# Altium schematic symbol library SamacSys.SchLib: 218 symbols (part 1 of 3)
Pins are listed as number, name and electrical type; pins without a type are passive.

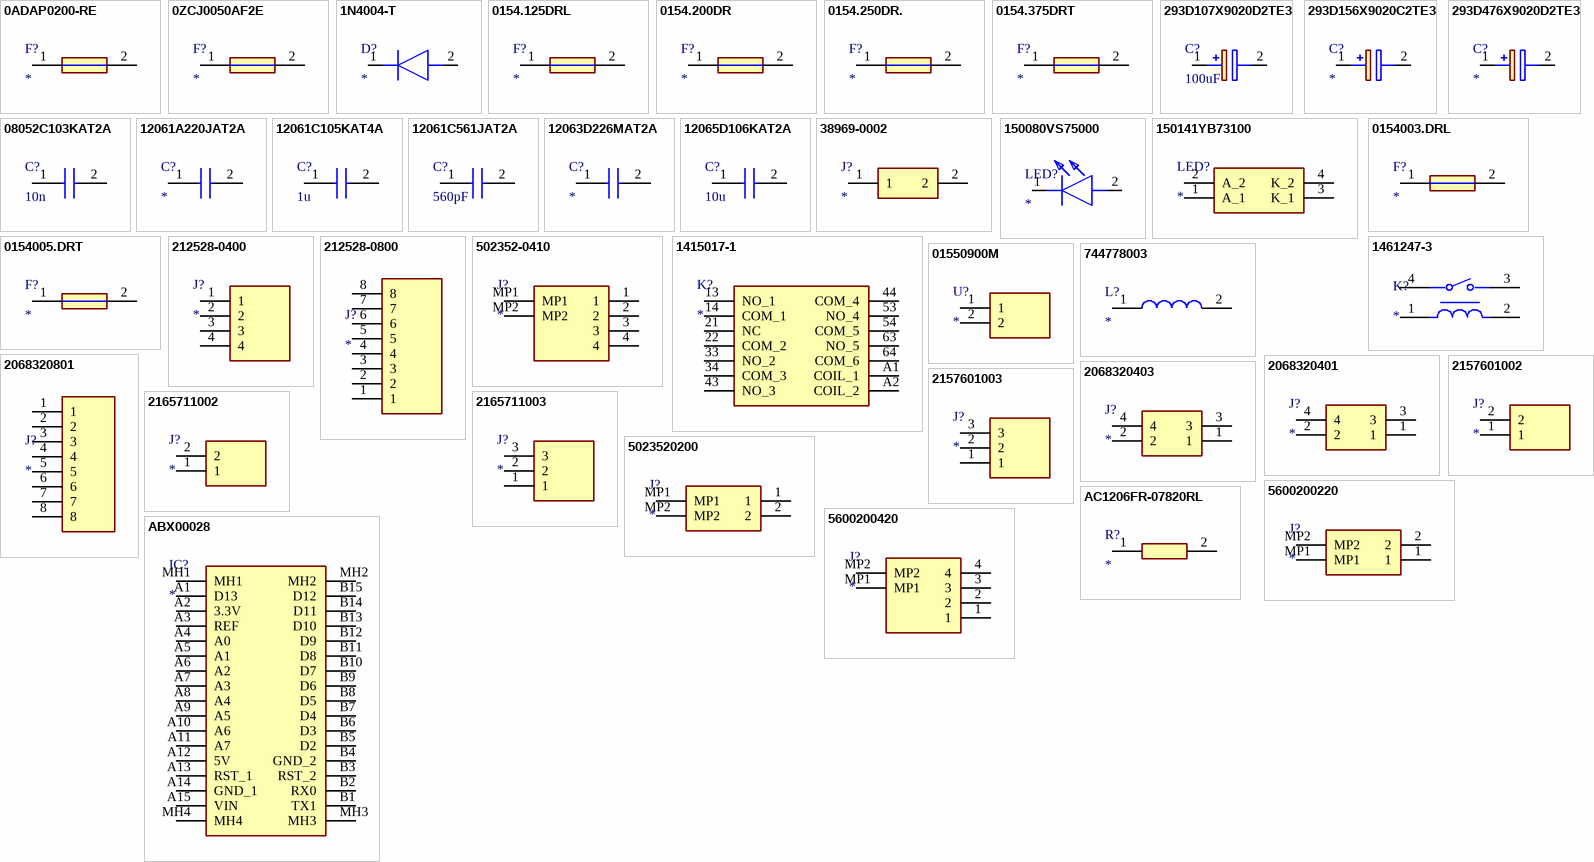
[diagram p0: symbols 0ADAP0200-RE to AC1206FR-07820RL]

## 0ADAP0200-RE
designator F?
Fuse; Manufacturer_Name: BelFuse; Manufacturer_Part_Number: 0ADAP0200-RE; Datasheet Link: https://www.belfuse.com/resources/datasheets/circuitprotection/ds-cp-0adax-series.pdf; Height: 7.06mm; Mouser Part Number: 530-0ADAP0200-RE; Mouser Price/Stock: https://www.mouser.co.uk/ProductDetail/Bel-Fuse/0ADAP0200-RE?qs=chTDxNqvsylLbV%252B5gr9f%252Bw%3D%3D; Arrow Part Number: 0ADAP0200-RE; Arrow Price/Stock: https://www.arrow.com/en/products/0adap0200-re/bel-group
footprint 0ADAP0200RE
pins: 1, 2

## 0ZCJ0050AF2E
designator F?
Fuse; Manufacturer_Name: BelFuse; Manufacturer_Part_Number: 0ZCJ0050AF2E; Datasheet Link: https://datasheet.datasheetarchive.com/originals/distributors/Datasheets_SAMA/7d7191d77363ec710a142f55990dd75c.pdf; Height: 1.2mm; Mouser Part Number: 530-0ZCJ0050AF2E; Mouser Price/Stock: https://www.mouser.co.uk/ProductDetail/Bel-Fuse/0ZCJ0050AF2E?qs=SRYZG9HaIQ3Oqm1PQp276Q%3D%3D; Arrow Part Number: 0ZCJ0050AF2E; Arrow Price/Stock: https://www.arrow.com/en/products/0zcj0050af2e/bel-group
footprint FUSC3216X120N
pins: 1, 2

## 1N4004-T
designator D?
Diode; Manufacturer_Name: Diodes Incorporated; Manufacturer_Part_Number: 1N4004-T; Datasheet Link: https://www.diodes.com/assets/Datasheets/ds28002.pdf; Mouser Part Number: 621-1N4004; Mouser Price/Stock: https://www.mouser.co.uk/ProductDetail/Diodes-Incorporated/1N4004-T?qs=e%2FRqmsgwm9h5YfUmULbvEw%3D%3D; Arrow Part Number: 1N4004-T; Arrow Price/Stock: https://www.arrow.com/en/products/1n4004-t/diodes-incorporated?region=nac
footprint DIOAD1408W86L464D236
pins: 1 K, 2 A

## 0154.125DRL
designator F?
Fuse; Manufacturer_Name: LITTELFUSE; Manufacturer_Part_Number: 0154.125DRL; Datasheet Link: https://www.littelfuse.com/~/media/electronics/datasheets/fuses/littelfuse_fuse_154_154t_154l_154tl_datasheet.pdf.pdf; Height: 3.81mm; Mouser Part Number: 576-0154.125DRL; Mouser Price/Stock: https://www.mouser.co.uk/ProductDetail/Littelfuse/0154125DRL?qs=tQeA2zcAjvXNv8zbJglW5w%3D%3D; Arrow Part Number: 0154.125DRL; Arrow Price/Stock: https://www.arrow.com/en/products/0154.125drl/littelfuse
footprint 0154125DRL
pins: 1, 2

## 0154.200DR
designator F?
Fuse; Manufacturer_Name: LITTELFUSE; Manufacturer_Part_Number: 0154.200DR; Datasheet Link: https://www.littelfuse.com/~/media/electronics/datasheets/fuses/littelfuse_fuse_154_154t_154l_154tl_datasheet.pdf.pdf; Height: 3.81mm; Mouser Part Number: 576-0154.200DR; Mouser Price/Stock: https://www.mouser.co.uk/ProductDetail/Littelfuse/0154200DR?qs=gu7KAQ731US6ZUdwCwv6rQ%3D%3D; Arrow Part Number: 0154.200DR; Arrow Price/Stock: https://www.arrow.com/en/products/0154.200dr/littelfuse
footprint 0154200DR
pins: 1, 2

## 0154.250DR.
designator F?
Fuse; Manufacturer_Name: LITTELFUSE; Manufacturer_Part_Number: 0154.250DR.; Datasheet Link: https://www.littelfuse.com/media?resourcetype=datasheets&itemid=63f61b85-5fc5-4f00-9ca9-8d59a6252d71&filename=littelfuse_fuse_154_154t_154l_154tl_datasheet.pdf; Height: 3.81mm
footprint 0154250DR
pins: 1, 2

## 0154.375DRT
designator F?
Fuse; Manufacturer_Name: LITTELFUSE; Manufacturer_Part_Number: 0154.375DRT; Datasheet Link: https://www.littelfuse.com/~/media/electronics/datasheets/fuses/littelfuse_fuse_154_154t_154l_154tl_datasheet.pdf.pdf; Height: 3.81mm; Mouser Part Number: 576-0154.375DRT; Mouser Price/Stock: https://www.mouser.co.uk/ProductDetail/Littelfuse/0154.375DRT?qs=gu7KAQ731UTSIgWP9CncwQ%3D%3D; Arrow Part Number: 0154.375DRT; Arrow Price/Stock: https://www.arrow.com/en/products/0154.375drt/littelfuse?region=nac
footprint 0154375DRT
pins: 1, 2

## 293D107X9020D2TE3
designator C?, comment 100uF
Capacitor Polarised; Manufacturer_Name: Vishay; Manufacturer_Part_Number: 293D107X9020D2TE3; Voltage Rating: 20VDC; Tolerance: 10%; ESR: 600mΩ; Datasheet Link: http://www.vishay.com/docs/40002/293d.pdf; Height: 3.1mm; Mouser Part Number: 74-293D107X9020D2TE3; Mouser Price/Stock: https://www.mouser.com/Search/Refine.aspx?Keyword=74-293D107X9020D2TE3; Arrow Part Number: 293D107X9020D2TE3; Arrow Price/Stock: https://www.arrow.com/en/products/293d107x9020d2te3/vishay; Capacitance: 100uF; Case Code (in): 2917
footprint CAPPM7343X310N
pins: 1 +, 2 -

## 293D156X9020C2TE3
designator C?
Capacitor Polarised; Manufacturer_Name: Vishay; Manufacturer_Part_Number: 293D156X9020C2TE3; Datasheet Link: http://www.vishay.com/docs/40002/293d.pdf; Height: 2.8mm
footprint CAPPM6032X280N
pins: 1 +, 2 -

## 293D476X9020D2TE3
designator C?
Capacitor Polarised; Manufacturer_Name: Vishay; Manufacturer_Part_Number: 293D476X9020D2TE3; Datasheet Link: http://www.vishay.com/docs/40002/293d.pdf; Height: 3.1mm; Mouser Part Number: 74-293D476X9020D2TE3; Mouser Price/Stock: https://www.mouser.co.uk/ProductDetail/Vishay-Sprague/293D476X9020D2TE3?qs=L4BSZja3YaJLjBSOyPx9Sw%3D%3D
footprint CAPPM7343X310N
pins: 1 +, 2 -

## 08052C103KAT2A
designator C?, comment 10n
Capacitor; Manufacturer_Name: Kyocera AVX; Manufacturer_Part_Number: 08052C103KAT2A; Voltage Rating: 200VDC; Tolerance: 10%; Mouser Part Number: 581-08052C103K; Mouser Price/Stock: https://www.mouser.co.uk/ProductDetail/KYOCERA-AVX/08052C103KAT2A?qs=ZjKHk4KRXx3i0H%252BmQwDVZQ%3D%3D; Arrow Part Number: 08052C103KAT2A; Arrow Price/Stock: https://www.arrow.com/en/products/08052c103kat2a/avx; Capacitance: 10n; Case Code - in: 0805
footprint CAPC2013X94N
pins: 1 C1, 2 C2

## 12061A220JAT2A
designator C?
Capacitor; Manufacturer_Name: AVX; Manufacturer_Part_Number: 12061A220JAT2A; Datasheet Link: http://componentsearchengine.com/Datasheets/1/12061A220JAT2A.pdf; Mouser Part Number: 581-12061A220J; Mouser Price/Stock: https://www.mouser.com/Search/Refine.aspx?Keyword=581-12061A220J; Arrow Part Number: 12061A220JAT2A; Arrow Price/Stock: https://www.arrow.com/en/products/12061a220jat2a/avx
footprint CAPC3216X94N
pins: 1 C1, 2 C2

## 12061C105KAT4A
designator C?, comment 1u
Capacitor; Manufacturer_Name: AVX; Manufacturer_Part_Number: 12061C105KAT4A; Voltage Rating: 100VDC; Tolerance: 10%; Datasheet Link: https://datasheets.kyocera-avx.com/X7RDielectric.pdf; Height: 2.29mm; Mouser Part Number: 581-12061C105KAT4A; Mouser Price/Stock: https://www.mouser.com/Search/Refine.aspx?Keyword=581-12061C105KAT4A; Arrow Part Number: 12061C105KAT4A; Arrow Price/Stock: https://www.arrow.com/en/products/12061c105kat4a/avx; Capacitance: 1u; Case Code - in: 1206
footprint CAPC3216X229N
pins: 1, 2

## 12061C561JAT2A
designator C?, comment 560pF
Capacitor; Manufacturer_Name: Kyocera AVX; Manufacturer_Part_Number: 12061C561JAT2A; Voltage Rating: 100VDC; Tolerance: 5%; Capacitance: 560pF; Case Code (in): 1206
footprint CAPC3216X94N
pins: 1 C1, 2 C2

## 12063D226MAT2A
designator C?
Capacitor; Manufacturer_Name: Kyocera AVX; Manufacturer_Part_Number: 12063D226MAT2A; Datasheet Link: https://rs.componentsearchengine.com/Datasheets/1/12063D226MAT2A.pdf; Height: 2.29mm; Mouser Part Number: 581-12063D226MAT2A; Mouser Price/Stock: https://www.mouser.co.uk/ProductDetail/KYOCERA-AVX/12063D226MAT2A?qs=q%252BHV0zBR8MiKBGAgbZK5Jw%3D%3D; Arrow Part Number: 12063D226MAT2A; Arrow Price/Stock: https://www.arrow.com/en/products/12063d226mat2a/avx?region=nac
footprint CAPC3216X229N
pins: 1, 2

## 12065D106KAT2A
designator C?, comment 10u
Capacitor; Manufacturer_Name: AVX; Manufacturer_Part_Number: 12065D106KAT2A; Voltage Rating: 50VDC; Tolerance: 10%; Datasheet Link: http://datasheets.avx.com/cx5r.pdf; Height: 2.29mm; Mouser Part Number: 581-12065D106KAT2A; Mouser Price/Stock: https://www.mouser.co.uk/ProductDetail/AVX/12065D106KAT2A?qs=KdTYp8tcPglFZs244%2FIMaw%3D%3D; Arrow Part Number: 12065D106KAT2A; Arrow Price/Stock: https://www.arrow.com/en/products/12065d106kat2a/avx?region=nac; Capacitance: 10u; Case Code - in: 1206
footprint CAPC3216X229N
pins: 1, 2

## 38969-0002
designator J?
Connector; Manufacturer_Name: Molex; Manufacturer_Part_Number: 38969-0002; Datasheet Link: https://www.mouser.com/datasheet/2/276/0389690002_TERMINAL_BLOCKS-138581.pdf; Height: 21.9mm; Mouser Part Number: 538-38969-0002; Mouser Price/Stock: https://www.mouser.co.uk/ProductDetail/Molex/38969-0002?qs=%2Fs3Y63xoe9mbpbSgf7b48A%3D%3D
footprint 389690002
pins: 1, 2

## 150080VS75000
designator LED?
LED; Manufacturer_Name: Wurth Elektronik; Manufacturer_Part_Number: 150080VS75000; Datasheet Link: http://katalog.we-online.com/led/datasheet/150080VS75000.pdf; Height: 0.8mm; Mouser Part Number: 710-150080VS75000; Mouser Price/Stock: https://www.mouser.co.uk/ProductDetail/Wurth-Elektronik/150080VS75000?qs=LlUlMxKIyB0tGHJmO6%252B0ug%3D%3D
footprint LEDC2012X80N
pins: 1 K, 2 A

## 150141YB73100
designator LED?
LED; Manufacturer_Name: Wurth Elektronik; Manufacturer_Part_Number: 150141YB73100; Datasheet Link: https://katalog.we-online.com/led/datasheet/150141YB73100.pdf; Mouser Part Number: 710-150141YB73100; Mouser Price/Stock: https://www.mouser.co.uk/ProductDetail/Wurth-Elektronik/150141YB73100?qs=LlUlMxKIyB0w3o6OoXw%252BvA%3D%3D
footprint WL-SBTW_SMD_TOP_LED
pins: 1 A_1, 2 A_2, 3 K_1, 4 K_2

## 0154003.DRL
designator F?
Fuse; Manufacturer_Name: LITTELFUSE; Manufacturer_Part_Number: 0154003.DRL; Datasheet Link: https://www.littelfuse.com/~/media/electronics/datasheets/fuses/littelfuse_fuse_154_154t_154l_154tl_datasheet.pdf.pdf; Height: 3.81mm; Mouser Part Number: 576-0154003.DRL; Mouser Price/Stock: https://www.mouser.co.uk/ProductDetail/Littelfuse/0154003.DRL?qs=tQeA2zcAjvUcS%2FalRyEvsA%3D%3D; Arrow Part Number: 0154003.DRL; Arrow Price/Stock: https://www.arrow.com/en/products/0154003.drl/littelfuse?region=nac
footprint 01550900M
pins: 1, 2

## 0154005.DRT
designator F?
Fuse; Manufacturer_Name: LITTELFUSE; Manufacturer_Part_Number: 0154005.DRT; Datasheet Link: http://www.littelfuse.com/~/media/electronics/datasheets/fuses/littelfuse_fuse_154_154t_154l_154tl_datasheet.pdf.pdf; Mouser Part Number: 576-0154005.DRT; Mouser Price/Stock: https://www.mouser.co.uk/ProductDetail/Littelfuse/0154005.DRT?qs=2VFNtWizgifx0k3BLzdHRw%3D%3D; Arrow Part Number: 0154005.DRT; Arrow Price/Stock: https://www.arrow.com/en/products/0154005.drt/littelfuse?region=nac
footprint 0154001.DRT
pins: 1, 2

## 212528-0400
designator J?
Connector; Manufacturer_Name: Molex; Manufacturer_Part_Number: 212528-0400; Datasheet Link: https://www.molex.com/pdm_docs/sd/2125280200_sd.pdf; Height: 8.8mm; Mouser Part Number: 538-212528-0400; Mouser Price/Stock: https://www.mouser.co.uk/ProductDetail/Molex/212528-0400?qs=W%2FMpXkg%252BdQ6i%2FN2d5jkDAA%3D%3D; Arrow Part Number: 212528-0400; Arrow Price/Stock: https://www.arrow.com/en/products/2125280400/molex?region=europe
footprint 212528-04YY_1
pins: 1, 2, 3, 4

## 212528-0800
designator J?
Connector; Manufacturer_Name: Molex; Manufacturer_Part_Number: 212528-0800; Datasheet Link: https://www.molex.com/pdm_docs/sd/2125280200_sd.pdf; Height: 8.8mm; Mouser Part Number: 538-212528-0800; Mouser Price/Stock: https://www.mouser.co.uk/ProductDetail/Molex/212528-0800?qs=W%2FMpXkg%252BdQ7G05H2rg2IyA%3D%3D
footprint 212528-08YY_1
pins: 1, 2, 3, 4, 5, 6, 7, 8

## 502352-0410
designator J?
Connector; Manufacturer_Name: Molex; Manufacturer_Part_Number: 502352-0410; Height: 6.4mm; Mouser Part Number: 538-502352-0410; Mouser Price/Stock: https://www.mouser.co.uk/ProductDetail/Molex/502352-0410?qs=b0v8CoHHvSMnxRGu23%252Bdjw%3D%3D
footprint 5023520410
pins: 1, 2, 3, 4, MP1, MP2

## 1415017-1
designator K?
Relay or Contactor; Manufacturer_Name: TE Connectivity; Manufacturer_Part_Number: 1415017-1; Datasheet Link: https://www.te.com/commerce/DocumentDelivery/DDEController?Action=showdoc&DocId=Data+Sheet%7FSR6%7F0920%7Fpdf%7FEnglish%7FENG_DS_SR6_0920.pdf%7F1415017-1; Height: 16.5mm; Mouser Part Number: N/A; Mouser Price/Stock: https://www.mouser.co.uk/ProductDetail/TE-Connectivity-Schrack/1415017-1?qs=yqtiFrRGxgassDd%2FWmudYQ%3D%3D
footprint 14150171
pins: 13 NO_1, 14 COM_1, 21 NC, 22 COM_2, 33 NO_2, 34 COM_3, 43 NO_3, 44 COM_4, 53 NO_4, 54 COM_5, 63 NO_5, 64 COM_6, A1 COIL_1, A2 COIL_2

## 1461247-3
designator K?
Relay or Contactor; Manufacturer_Name: TE Connectivity; Manufacturer_Part_Number: 1461247-3; Datasheet Link: https://componentsearchengine.com/Datasheets/1/1461247-3.pdf; Height: 15.1mm; Mouser Part Number: 655-1461247-3; Mouser Price/Stock: https://www.mouser.co.uk/ProductDetail/TE-Connectivity-OEG/1461247-3?qs=QIiuLP2W41B1usNCPKRj9w%3D%3D; Arrow Part Number: 1461247-3; Arrow Price/Stock: https://www.arrow.com/en/products/1461247-3/te-connectivity?region=europe
footprint 14612473
pins: 1, 2, 3, 4

## 01550900M
designator U?
Undefined or Miscellaneous; Manufacturer_Name: LITTELFUSE; Manufacturer_Part_Number: 01550900M; Datasheet Link: http://www.littelfuse.com/~/media/electronics/datasheets/fuses/littelfuse_fuse_154_154t_154l_154tl_datasheet.pdf.pdf; Height: 3.81mm; Mouser Part Number: 576-01550900M; Mouser Price/Stock: https://www.mouser.co.uk/ProductDetail/Littelfuse/01550900M?qs=DDoybve0rC%252BTXq1hqi5X1g%3D%3D; Arrow Part Number: 01550900M; Arrow Price/Stock: https://www.arrow.com/en/products/01550900m/littelfuse?region=europe
footprint 01550900M
pins: 1, 2

## 744778003
designator L?
Inductor; Manufacturer_Name: Wurth Elektronik; Manufacturer_Part_Number: 744778003; Datasheet Link: https://www.we-online.com/components/products/datasheet/744778003.pdf; Height: 3.4mm
footprint 744778003
pins: 1, 2

## 2068320401
designator J?
Connector; Manufacturer_Name: Molex; Manufacturer_Part_Number: 2068320401; Datasheet Link: https://www.molex.com/pdm_docs/sd/2068320201_sd.pdf; Height: 6.7mm; Arrow Part Number: 2068320401; Arrow Price/Stock: https://www.arrow.com/en/products/2068320401/molex
footprint 20683204YY
pins: 1, 2, 3, 4

## 2068320403
designator J?
Connector; Manufacturer_Name: Molex; Manufacturer_Part_Number: 2068320403; Datasheet Link: https://www.molex.com/pdm_docs/sd/2068320201_sd.pdf; Height: 6.7mm
footprint 20683204YY
pins: 1, 2, 3, 4

## 2068320801
designator J?
Connector; Manufacturer_Name: Molex; Manufacturer_Part_Number: 2068320801; Datasheet Link: https://www.molex.com/pdm_docs/sd/2068320201_sd.pdf; Height: 6.7mm
footprint 20683208YY
pins: 1, 2, 3, 4, 5, 6, 7, 8

## 2157601002
designator J?
Connector; Manufacturer_Name: Molex; Manufacturer_Part_Number: 2157601002; Datasheet Link: https://www.molex.com/pdm_docs/sd/2157601002_sd.pdf; Height: 1.6mm; Arrow Part Number: 2157601002; Arrow Price/Stock: https://www.arrow.com/en/products/2157601002/molex?region=nac
footprint 215760YY02
pins: 1, 2

## 2157601003
designator J?
Connector; Manufacturer_Name: Molex; Manufacturer_Part_Number: 2157601003; Datasheet Link: https://www.molex.com/pdm_docs/sd/2157601002_sd.pdf; Height: 1.6mm
footprint 215760YY03
pins: 1, 2, 3

## 2165711002
designator J?
Connector; Manufacturer_Name: Molex; Manufacturer_Part_Number: 2165711002; Datasheet Link: https://www.molex.com/pdm_docs/sd/2165711002_sd.pdf; Height: 9.91mm; Arrow Part Number: 2165711002; Arrow Price/Stock: https://www.arrow.com/en/products/2165711002/molex?region=nac
footprint 216571YY02
pins: 1, 2

## 2165711003
designator J?
Connector; Manufacturer_Name: Molex; Manufacturer_Part_Number: 2165711003; Datasheet Link: https://www.molex.com/pdm_docs/sd/2165711002_sd.pdf; Height: 9.91mm; Arrow Part Number: 2165711003; Arrow Price/Stock: https://www.arrow.com/en/products/2165711003/molex?region=nac
footprint 216571YY03
pins: 1, 2, 3

## 5023520200
designator J?
Connector; Manufacturer_Name: Molex; Manufacturer_Part_Number: 5023520200; Datasheet Link: https://www.molex.com/content/dam/molex/molex-dot-com/products/automated/en-us/salesdrawingpdf/502/502352/5023520200_sd.pdf; Height: 6.6mm; Mouser Part Number: N/A; Mouser Price/Stock: https://www.mouser.com/Search/Refine.aspx?Keyword=N%2FA; Arrow Part Number: 5023520200; Arrow Price/Stock: https://www.arrow.com/en/products/5023520200/molex?region=europe
footprint 5023520200
pins: 1, 2, MP1, MP2

## 5600200220
designator J?
Connector; Manufacturer_Name: Molex; Manufacturer_Part_Number: 5600200220; Datasheet Link: https://www.molex.com/content/dam/molex/molex-dot-com/products/automated/en-us/salesdrawingpdf/560/560020/5600200220_sd.pdf; Height: 8.2mm; Arrow Part Number: 5600200220; Arrow Price/Stock: https://www.arrow.com/en/products/5600200220/molex?utm_currency=USD&region=europe
footprint 5600200220
pins: 1, 2, MP1, MP2

## 5600200420
designator J?
Connector; Manufacturer_Name: Molex; Manufacturer_Part_Number: 5600200420; Datasheet Link: https://www.molex.com/content/dam/molex/molex-dot-com/products/automated/en-us/salesdrawingpdf/560/560020/5600200420_sd.pdf; Height: 8.2mm; Arrow Part Number: 5600200420; Arrow Price/Stock: https://www.arrow.com/en/products/560020-0420/molex?utm_currency=USD&region=nac
footprint 5600200420
pins: 1, 2, 3, 4, MP1, MP2

## ABX00028
designator IC?
Integrated Circuit; Manufacturer_Name: Arduino; Manufacturer_Part_Number: ABX00028; Datasheet Link: https://store.arduino.cc/arduino-nano-every; Height: 10mm; Mouser Part Number: 782-ABX00028; Mouser Price/Stock: https://www.mouser.co.uk/ProductDetail/Arduino/ABX00028?qs=PzGy0jfpSMtit6rnFl8mVg%3D%3D; Arrow Part Number: ABX00028; Arrow Price/Stock: https://www.arrow.com/en/products/abx00028/arduino-corporation?region=nac
footprint ABX00028
pins: A1 D13, A2 3.3V, A3 REF, A4 A0, A5 A1, A6 A2, A7 A3, A8 A4, A9 A5, A10 A6, A11 A7, A12 5V, A13 RST_1, A14 GND_1, A15 VIN, B1 TX1, B2 RX0, B3 RST_2, B4 GND_2, B5 D2, B6 D3, B7 D4, B8 D5, B9 D6, B10 D7, B11 D8, B12 D9, B13 D10, B14 D11, B15 D12, MH1, MH2, MH3, MH4

## AC1206FR-07820RL
designator R?
Resistor; Manufacturer_Name: KEMET; Manufacturer_Part_Number: AC1206FR-07820RL; Datasheet Link: https://www.yageo.com/upload/media/product/productsearch/datasheet/rchip/PYu-AC_51_RoHS_L_7.pdf; Height: 0.65mm
footprint RESC3116X65N
pins: 1, 2

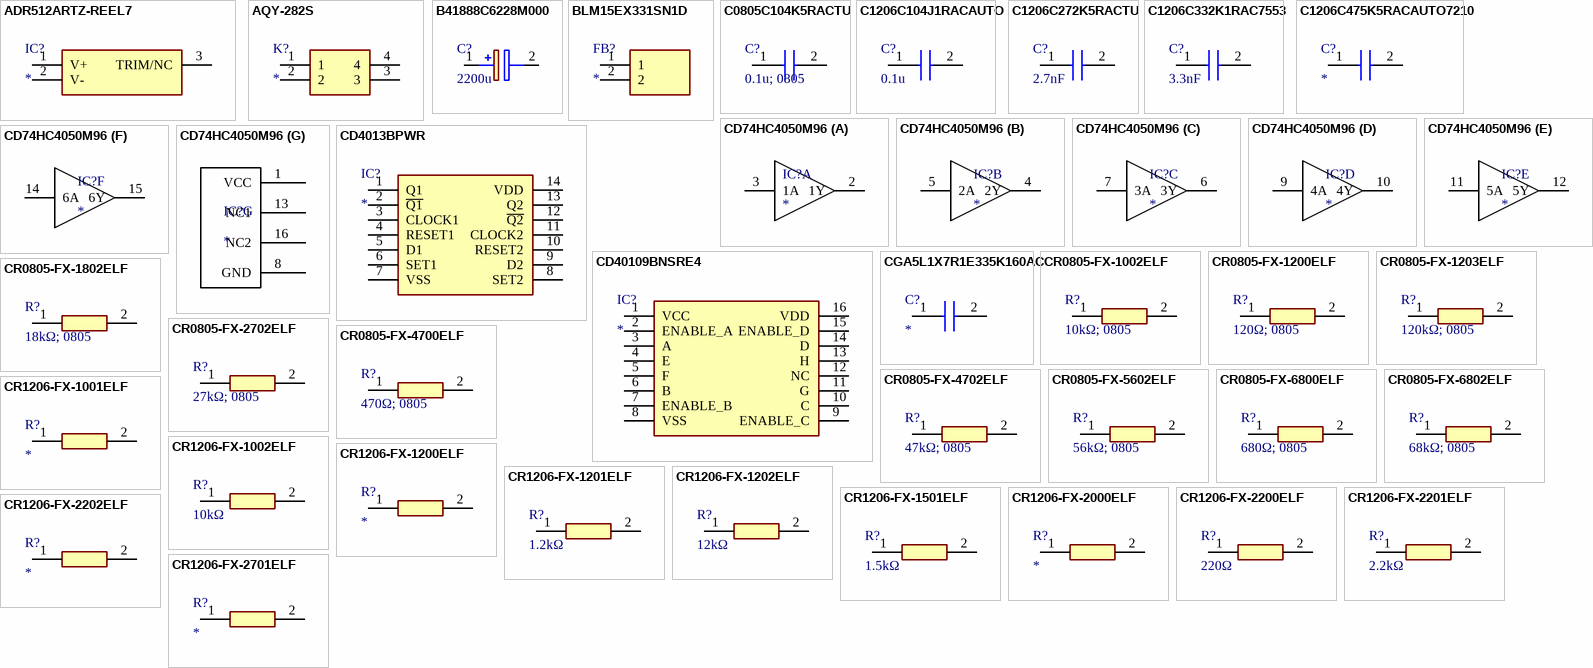
[diagram p1: symbols ADR512ARTZ-REEL7 to CR1206-FX-2701ELF]

## ADR512ARTZ-REEL7
designator IC?
Integrated Circuit; Manufacturer_Name: Analog Devices; Manufacturer_Part_Number: ADR512ARTZ-REEL7; Mouser Part Number: 584-ADR512ARTZ-R7; Mouser Price/Stock: https://www.mouser.com/Search/Refine.aspx?Keyword=584-ADR512ARTZ-R7
footprint SOT95P237X112-3N
pins: 1 V+, 2 V-, 3 TRIM/NC

## AQY-282S
designator K?
Relay or Contactor; Manufacturer_Name: Panasonic; Manufacturer_Part_Number: AQY-282S; Datasheet Link: https://datasheet.lcsc.com/szlcsc/PANASONIC-AQY282S_C129284.pdf; Height: 2.3mm
footprint SOP254P680X230-4N
pins: 1, 2, 3, 4

## B41888C6228M000
designator C?, comment 2200u
Capacitor Polarised; Manufacturer_Name: TDK; Manufacturer_Part_Number: B41888C6228M000; Voltage Rating: 50 VDC; Tolerance: 20%; Datasheet Link: https://product.tdk.com/system/files/dam/doc/product/capacitor/aluminum-electrolytic/single-ended/data_sheet/20/30/db/aec/b41888.pdf; Height: 37mm; Mouser Part Number: 871-B41888C6228M; Mouser Price/Stock: https://www.mouser.co.uk/ProductDetail/EPCOS-TDK/B41888C6228M000?qs=nadT%2FcWsIvAiPHi0h3OyoA%3D%3D; Capacitance: 2200u
footprint CAPPRD750W90D1825H3700
pins: 1 +, 2 -

## BLM15EX331SN1D
designator FB?
Ferrite Bead; Manufacturer_Name: Murata Electronics; Manufacturer_Part_Number: BLM15EX331SN1D; Datasheet Link: http://www.murata.com/~/media/webrenewal/support/library/catalog/products/emc/emifil/c31e.ashx?la=en-gb; Height: 0.55mm; Mouser Part Number: 81-BLM15EX331SN1D; Mouser Price/Stock: https://www.mouser.co.uk/ProductDetail/Murata-Electronics/BLM15EX331SN1D?qs=Ih85XBhZ45mPmPD13QUbNQ%3D%3D
footprint NFZ15SG152SN10B
pins: 1, 2

## C0805C104K5RACTU
designator C?, comment 0.1u; 0805
Capacitor; Manufacturer_Name: KEMET; Manufacturer_Part_Number: C0805C104K5RAC-TU; Voltage Rating: 50VDC; Tolerance: 10%; Datasheet Link: https://componentsearchengine.com/Datasheets/2/C0805C104K5RAC-TU.pdf; Height: 0.88mm; Arrow Part Number: C0805C104K5RAC-TU; Arrow Price/Stock: https://www.arrow.com/en/products/c0805c104k5ractu/kemet-corporation; Capacitance: 0.1u; Case Code - in: 0805
footprint CAPC2012X88N
pins: 1, 2

## C1206C104J1RACAUTO
designator C?, comment 0.1u
Capacitor; Manufacturer_Name: KEMET; Manufacturer_Part_Number: C1206C104J1RACAUTO; Voltage Rating: 100VDC; Tolerance: 5%; Datasheet Link: https://content.kemet.com/datasheets/KEM_C1023_X7R_AUTO_SMD.pdf; Mouser Part Number: 80-C1206C104J1RAUTO; Mouser Price/Stock: https://www.mouser.co.uk/ProductDetail/KEMET/C1206C104J1RACAUTO?qs=ds50AKTGxA9j0bB4hqTS6Q%3D%3D; Capacitance: 0.1u; Case Code - in: 1206
footprint C1206
pins: 1, 2

## C1206C272K5RACTU
designator C?, comment 2.7nF
Capacitor; Manufacturer_Name: KEMET; Manufacturer_Part_Number: C1206C272K5RACTU; Tolerance: 10%; Voltage Rating: 50VDC; Datasheet Link: https://content.kemet.com/datasheets/KEM_C1002_X7R_SMD.pdf; Capacitance: 2.7nF; Case Code (in): 1206
footprint C1206
pins: 1, 2

## C1206C332K1RAC7553
designator C?, comment 3.3nF
Capacitor; Manufacturer_Name: KEMET; Manufacturer_Part_Number: C1206C332K1RAC7553; Voltage Rating: 100VDC; Datasheet Link: https://www.mouser.de/ProductDetail/KEMET/C1206C332K1RAC7553?qs=%252B6Xa7QjhZQmWxDtOTJR8%252BQ%3D%3D; Height: 0.88mm; Mouser Part Number: 80-C1206C332K1R7553; Mouser Price/Stock: https://www.mouser.co.uk/ProductDetail/KEMET/C1206C332K1RAC7553?qs=%252B6Xa7QjhZQmWxDtOTJR8%252BQ%3D%3D; Capacitance: 3.3nF
footprint CAPC3216X88N
pins: 1, 2

## C1206C475K5RACAUTO7210
designator C?
Capacitor; Manufacturer_Name: KEMET; Manufacturer_Part_Number: C1206C475K5RACAUTO7210; Datasheet Link: https://content.kemet.com/datasheets/KEM_C1023_X7R_AUTO_SMD.pdf; Mouser Part Number: 80-C1206C475K5RAUTLR; Mouser Price/Stock: https://www.mouser.co.uk/ProductDetail/KEMET/C1206C475K5RACAUTO7210?qs=%252B6g0mu59x7Ji54ivzW9%2FEA%3D%3D; Arrow Part Number: C1206C475K5RACAUTO7210; Arrow Price/Stock: https://www.arrow.com/en/products/c1206c475k5racauto7210/kemet-corporation
footprint C1206
pins: 1, 2

## CD74HC4050M96
designator IC?
Integrated Circuit; Manufacturer_Name: Texas Instruments; Manufacturer_Part_Number: CD74HC4050M96; Datasheet Link: http://www.ti.com/lit/gpn/cd74hc4050; Height: 1.75mm; Mouser Part Number: 595-CD74HC4050M96; Mouser Price/Stock: https://www.mouser.co.uk/ProductDetail/Texas-Instruments/CD74HC4050M96?qs=5h8QSfodyRgD3whuUyGNMg%3D%3D; Arrow Part Number: CD74HC4050M96; Arrow Price/Stock: https://www.arrow.com/en/products/cd74hc4050m96/texas-instruments?region=nac
footprint SOIC127P600X175-16N
part A pins: 2 1Y, 3 1A
part B pins: 4 2Y, 5 2A
part C pins: 6 3Y, 7 3A
part D pins: 9 4A, 10 4Y
part E pins: 11 5A, 12 5Y
part F pins: 14 6A, 15 6Y
part G pins: 1 VCC, 8 GND, 13 NC1, 16 NC2

## CD4013BPWR
designator IC?
Integrated Circuit; Manufacturer_Name: Texas Instruments; Manufacturer_Part_Number: CD4013BPWR; Datasheet Link: http://www.ti.com/lit/gpn/cd4013b; Height: 1.2mm; Mouser Part Number: 595-CD4013BPWR; Mouser Price/Stock: https://www.mouser.co.uk/ProductDetail/Texas-Instruments/CD4013BPWR?qs=vxEfx8VrU7DHDi56mzN1oQ%3D%3D; Arrow Part Number: CD4013BPWR; Arrow Price/Stock: https://www.arrow.com/en/products/cd4013bpwr/texas-instruments?region=nac
footprint SOP65P640X120-14N
pins: 1 Q1, 2 ~{Q1}, 3 CLOCK1, 4 RESET1, 5 D1, 6 SET1, 7 VSS, 8 SET2, 9 D2, 10 RESET2, 11 CLOCK2, 12 ~{Q2}, 13 Q2, 14 VDD

## CD40109BNSRE4
designator IC?
Integrated Circuit; Manufacturer_Name: Texas Instruments; Manufacturer_Part_Number: CD40109BNSRE4; Datasheet Link: https://www.ti.com/lit/ds/symlink/cd40109b.pdf?HQS=dis-mous-null-mousermode-dsf-pf-null-wwe&ts=1618815407412&ref_url=https%253A%252F%252Feu.mouser.com%252F; Height: 2mm; Mouser Part Number: 595-CD40109BNSRE4; Mouser Price/Stock: https://www.mouser.co.uk/ProductDetail/Texas-Instruments/CD40109BNSRE4?qs=vmM6vcLFxxHlDtL09AggtA%3D%3D; Arrow Part Number: CD40109BNSRE4; Arrow Price/Stock: https://www.arrow.com/en/products/cd40109bnsre4/texas-instruments
footprint SOIC127P780X200-16N
pins: 1 VCC, 2 ENABLE_A, 3 A, 4 E, 5 F, 6 B, 7 ENABLE_B, 8 VSS, 9 ENABLE_C, 10 C, 11 G, 12 NC, 13 H, 14 D, 15 ENABLE_D, 16 VDD

## CGA5L1X7R1E335K160AC
designator C?
Capacitor; Manufacturer_Name: TDK; Manufacturer_Part_Number: CGA5L1X7R1E335K160AC; Datasheet Link: http://docs-europe.electrocomponents.com/webdocs/14e9/0900766b814e9125.pdf; Height: 1.9mm; Mouser Part Number: 810-CGA5L1X7R1E335K; Mouser Price/Stock: https://www.mouser.com/Search/Refine.aspx?Keyword=810-CGA5L1X7R1E335K
footprint CAPC3216X190N
pins: 1, 2

## CR0805-FX-1002ELF
designator R?, comment 10kΩ; 0805
Resistor; Manufacturer_Name: Bourns; Manufacturer_Part_Number: CR0805-FX-1002ELF; Power Rating: 125mW; Tolerance: 1%; Voltage Rating: 150V; Datasheet Link: https://www.bourns.com/pdfs/chpreztr.pdf; Height: 0.6mm; Mouser Part Number: 652-CR0805FX-1002ELF; Mouser Price/Stock: https://www.mouser.co.uk/ProductDetail/Bourns/CR0805-FX-1002ELF?qs=tknLyCMIRbPr%252BDD0s0nG9g%3D%3D; Arrow Part Number: CR0805-FX-1002ELF; Arrow Price/Stock: https://www.arrow.com/en/products/cr0805-fx-1002elf/bourns?region=nac; Resistance: 10kΩ; Case Code - in: 0805
footprint RESC2012X60N
pins: 1, 2

## CR0805-FX-1200ELF
designator R?, comment 120Ω; 0805
Resistor; Manufacturer_Name: Bourns; Manufacturer_Part_Number: CR0805-FX-1200ELF; Power Rating: 125mW; Tolerance: 1%; Voltage Rating: 150V; Datasheet Link: https://www.bourns.com/pdfs/chpreztr.pdf; Height: 0.6mm; Mouser Part Number: 652-CR0805FX-1200ELF; Mouser Price/Stock: https://www.mouser.co.uk/ProductDetail/Bourns/CR0805-FX-1200ELF?qs=Hqdsf0hGw%2FAFRijALY743A%3D%3D; Arrow Part Number: CR0805-FX-1200ELF; Arrow Price/Stock: https://www.arrow.com/en/products/cr0805-fx-1200elf/bourns?region=nac; Resistance: 120Ω; Case Code - in: 0805
footprint RESC2012X60N
pins: 1, 2

## CR0805-FX-1203ELF
designator R?, comment 120kΩ; 0805
Resistor; Manufacturer_Name: Bourns; Manufacturer_Part_Number: CR0805-FX-1203ELF; Power Rating: 125mW; Voltage Rating: 150V; Datasheet Link: https://www.bourns.com/pdfs/chpreztr.pdf; Height: 0.6mm; Mouser Part Number: 652-CR0805FX-1203ELF; Mouser Price/Stock: https://www.mouser.co.uk/ProductDetail/Bourns/CR0805-FX-1203ELF?qs=Hqdsf0hGw%2FA35lRvHfv5sQ%3D%3D; Arrow Part Number: CR0805-FX-1203ELF; Arrow Price/Stock: https://www.arrow.com/en/products/cr0805-fx-1203elf/bourns; Resistance: 120kΩ; Case Code - in: 0805
footprint RESC2012X60N
pins: 1, 2

## CR0805-FX-1802ELF
designator R?, comment 18kΩ; 0805
Resistor; Manufacturer_Name: Bourns; Manufacturer_Part_Number: CR0805-FX-1802ELF; Power Rating: 125mW; Tolerance: 1%; Voltage Rating: 150V; Datasheet Link: https://www.bourns.com/pdfs/chpreztr.pdf; Height: 0.6mm; Mouser Part Number: 652-CR0805FX-1802ELF; Mouser Price/Stock: https://www.mouser.co.uk/ProductDetail/Bourns/CR0805-FX-1802ELF?qs=Woncl1%2FcWdgb62tdFVkr9Q%3D%3D; Resistance: 18kΩ; Case Code - in: 0805
footprint RESC2012X60N
pins: 1, 2

## CR0805-FX-2702ELF
designator R?, comment 27kΩ; 0805
Resistor; Manufacturer_Name: Bourns; Manufacturer_Part_Number: CR0805-FX-2702ELF; Power Rating: 125mW; Tolerance: 1%; Voltage Rating: 150V; Datasheet Link: https://www.bourns.com/pdfs/chpreztr.pdf; Height: 0.6mm; Mouser Part Number: 652-CR0805FX-2702ELF; Resistance: 27kΩ; Case Code - in: 0805
footprint RESC2012X60N
pins: 1, 2

## CR0805-FX-4700ELF
designator R?, comment 470Ω; 0805
Resistor; Manufacturer_Name: Bourns; Manufacturer_Part_Number: CR0805-FX-4700ELF; Power Rating: 125mW; Tolerance: 1%; Voltage Rating: 150V; Datasheet Link: https://www.bourns.com/pdfs/chpreztr.pdf; Height: 0.6mm; Mouser Part Number: 652-CR0805FX-4700ELF; Mouser Price/Stock: https://www.mouser.co.uk/ProductDetail/Bourns/CR0805-FX-4700ELF?qs=TYKCbaKwe1D8YFi4wfEXnw%3D%3D; Arrow Part Number: CR0805-FX-4700ELF; Arrow Price/Stock: https://www.arrow.com/en/products/cr0805-fx-4700elf/bourns; Resistance: 470Ω; Case Code - in: 0805
footprint RESC2012X60N
pins: 1, 2

## CR0805-FX-4702ELF
designator R?, comment 47kΩ; 0805
Resistor; Manufacturer_Name: Bourns; Manufacturer_Part_Number: CR0805-FX-4702ELF; Power Rating: 125mW; Tolerance: 1%; Voltage Rating: 150V; Datasheet Link: https://www.bourns.com/pdfs/chpreztr.pdf; Height: 0.6mm; Mouser Part Number: 652-CR0805FX-4702ELF; Mouser Price/Stock: https://www.mouser.co.uk/ProductDetail/Bourns/CR0805-FX-4702ELF?qs=TYKCbaKwe1A8YzuA1wXXBQ%3D%3D; Arrow Part Number: CR0805-FX-4702ELF; Arrow Price/Stock: https://www.arrow.com/en/products/cr0805-fx-4702elf/bourns?region=nac; Resistance: 47kΩ; Case Code - in: 0805
footprint RESC2012X60N
pins: 1, 2

## CR0805-FX-5602ELF
designator R?, comment 56kΩ; 0805
Resistor; Manufacturer_Name: Bourns; Manufacturer_Part_Number: CR0805-FX-5602ELF; Power Rating: 125mW; Tolerance: 1%; Voltage Rating: 150V; Datasheet Link: https://www.bourns.com/pdfs/chpreztr.pdf; Height: 0.6mm; Mouser Part Number: 652-CR0805FX-5602ELF; Mouser Price/Stock: https://www.mouser.co.uk/ProductDetail/Bourns/CR0805-FX-5602ELF?qs=LA9FZBosJlDmfWlvGHkolA%3D%3D; Arrow Part Number: CR0805-FX-5602ELF; Arrow Price/Stock: null?region=nac; Resistance: 56kΩ; Case Code - in: 0805
footprint RESC2012X60N
pins: 1, 2

## CR0805-FX-6800ELF
designator R?, comment 680Ω; 0805
Resistor; Manufacturer_Name: Bourns; Manufacturer_Part_Number: CR0805-FX-6800ELF; Power Rating: 125mW; Tolerance: 1%; Voltage Rating: 150V; Datasheet Link: https://www.bourns.com/pdfs/chpreztr.pdf; Height: 0.6mm; Mouser Part Number: 652-CR0805FX-6800ELF; Mouser Price/Stock: https://www.mouser.co.uk/ProductDetail/Bourns/CR0805-FX-6800ELF?qs=Ek4EPvi0xiBKWweqP3NeeQ%3D%3D; Arrow Part Number: CR0805-FX-6800ELF; Arrow Price/Stock: https://www.arrow.com/en/products/cr0805-fx-6800elf/bourns?region=nac; Resistance: 680Ω; Case Code - in: 0805
footprint RESC2012X60N
pins: 1, 2

## CR0805-FX-6802ELF
designator R?, comment 68kΩ; 0805
Resistor; Manufacturer_Name: Bourns; Manufacturer_Part_Number: CR0805-FX-6802ELF; Power Rating: 125mW; Tolerance: 1%; Voltage Rating: 150V; Datasheet Link: https://www.bourns.com/pdfs/chpreztr.pdf; Height: 0.6mm; Mouser Part Number: 652-CR0805FX-6802ELF; Mouser Price/Stock: https://www.mouser.co.uk/ProductDetail/Bourns/CR0805-FX-6802ELF?qs=Ek4EPvi0xiD58veQbX94vA%3D%3D; Arrow Part Number: CR0805-FX-6802ELF; Arrow Price/Stock: https://www.arrow.com/en/products/cr0805-fx-6802elf/bourns?region=nac; Resistance: 68kΩ; Case Code - in: 0805
footprint RESC2012X60N
pins: 1, 2

## CR1206-FX-1001ELF
designator R?
Resistor; Manufacturer_Name: Bourns; Manufacturer_Part_Number: CR1206-FX-1001ELF; Datasheet Link: http://www.bourns.com/data/global/pdfs/CHPREZTR.pdf; Height: 0.75mm; Mouser Part Number: 652-CR1206FX-1001ELF; Mouser Price/Stock: https://www.mouser.co.uk/ProductDetail/Bourns/CR1206-FX-1001ELF?qs=3wWX5hyYeeSyiD%2FH8LeNeg%3D%3D; Arrow Part Number: CR1206-FX-1001ELF; Arrow Price/Stock: https://www.arrow.com/en/products/cr1206-fx-1001elf/bourns?region=nac
footprint RESC3216X75N
pins: 1, 2

## CR1206-FX-1002ELF
designator R?, comment 10kΩ
Resistor; Manufacturer_Name: Bourns; Manufacturer_Part_Number: CR1206-FX-1002ELF; Power Rating: 250mW; Tolerance: 1%; Voltage Rating: 200V; Datasheet Link: http://www.bourns.com/data/global/pdfs/CHPREZTR.pdf; Height: 0.75mm; Mouser Part Number: 652-CR1206FX-1002ELF; Mouser Price/Stock: https://www.mouser.co.uk/ProductDetail/Bourns/CR1206-FX-1002ELF?qs=3wWX5hyYeeQyTehaX7pP%252BA%3D%3D; Arrow Part Number: CR1206-FX-1002ELF; Arrow Price/Stock: https://www.arrow.com/en/products/cr1206-fx-1002elf/bourns?region=nac; Resistance: 10kΩ; Case Code (In): 1206
footprint RESC3216X75N
pins: 1, 2

## CR1206-FX-1200ELF
designator R?
Resistor; Manufacturer_Name: Bourns; Manufacturer_Part_Number: CR1206-FX-1200ELF; Datasheet Link: http://www.bourns.com/data/global/pdfs/CHPREZTR.pdf; Height: 0.75mm; Mouser Part Number: 652-CR1206FX-1200ELF; Mouser Price/Stock: https://www.mouser.co.uk/ProductDetail/Bourns/CR1206-FX-1200ELF?qs=3wWX5hyYeeQeO3tXxM9tuw%3D%3D; Arrow Part Number: CR1206-FX-1200ELF; Arrow Price/Stock: https://www.arrow.com/en/products/cr1206-fx-1200elf/bourns?region=nac
footprint RESC3216X75N
pins: 1, 2

## CR1206-FX-1201ELF
designator R?, comment 1.2kΩ
Resistor; Manufacturer_Name: Bourns; Manufacturer_Part_Number: CR1206-FX-1201ELF; Power Rating: 250mW; Tolerance: 1%; Voltage Rating: 200V; Datasheet Link: http://www.bourns.com/data/global/pdfs/CHPREZTR.pdf; Height: 0.75mm; Mouser Part Number: 652-CR1206FX-1201ELF; Mouser Price/Stock: https://www.mouser.co.uk/ProductDetail/Bourns/CR1206-FX-1201ELF?qs=3wWX5hyYeeRtwIt%252BFZbBpA%3D%3D; Arrow Part Number: CR1206-FX-1201ELF; Arrow Price/Stock: https://www.arrow.com/en/products/cr1206-fx-1201elf/bourns?region=europe; Resistance: 1.2kΩ; Case Code - in: 1206
footprint RESC3216X75N
pins: 1, 2

## CR1206-FX-1202ELF
designator R?, comment 12kΩ
Resistor; Manufacturer_Name: Bourns; Manufacturer_Part_Number: CR1206-FX-1202ELF; Voltage Rating: 200V; Power Rating: 250mW; Datasheet Link: http://www.bourns.com/data/global/pdfs/CHPREZTR.pdf; Height: 0.75mm; Mouser Part Number: 652-CR1206FX-1202ELF; Mouser Price/Stock: https://www.mouser.com/Search/Refine.aspx?Keyword=652-CR1206FX-1202ELF; Arrow Part Number: CR1206-FX-1202ELF; Arrow Price/Stock: https://www.arrow.com/en/products/cr1206-fx-1202elf/bourns; Case Code (in): 1206; Resistance: 12kΩ
footprint RESC3216X75N
pins: 1, 2

## CR1206-FX-1501ELF
designator R?, comment 1.5kΩ
Resistor; Manufacturer_Name: Bourns; Manufacturer_Part_Number: CR1206-FX-1501ELF; Power Rating: 250mW; Tolerance: 1%; Voltage Rating: 200V; Datasheet Link: http://www.bourns.com/data/global/pdfs/CHPREZTR.pdf; Height: 0.75mm; Mouser Part Number: 652-CR1206FX-1501ELF; Mouser Price/Stock: https://www.mouser.co.uk/ProductDetail/Bourns/CR1206-FX-1501ELF?qs=QdEzPYIOmZhylq5r8vOIng%3D%3D; Arrow Part Number: CR1206-FX-1501ELF; Arrow Price/Stock: https://www.arrow.com/en/products/cr1206-fx-1501elf/bourns; Resistance: 1.5kΩ; Case Code (in): 1206
footprint RESC3216X75N
pins: 1, 2

## CR1206-FX-2000ELF
designator R?
Resistor; Manufacturer_Name: Bourns; Manufacturer_Part_Number: CR1206-FX-2000ELF; Datasheet Link: http://www.bourns.com/data/global/pdfs/CHPREZTR.pdf; Height: 0.75mm; Mouser Part Number: 652-CR1206FX-2000ELF; Mouser Price/Stock: https://www.mouser.com/Search/Refine.aspx?Keyword=652-CR1206FX-2000ELF; Arrow Part Number: CR1206-FX-2000ELF; Arrow Price/Stock: https://www.arrow.com/en/products/cr1206-fx-2000elf/bourns
footprint RESC3216X75N
pins: 1, 2

## CR1206-FX-2200ELF
designator R?, comment 220Ω
Resistor; Manufacturer_Name: Bourns; Manufacturer_Part_Number: CR1206-FX-2200ELF; Power Rating: 250mW; Tolerance: 1%; Voltage Rating: 200V; Datasheet Link: https://datasheet.datasheetarchive.com/originals/distributors/SFDatasheet-7/sf-000140162.pdf; Height: 0.75mm; Mouser Part Number: 652-CR1206FX-2200ELF; Mouser Price/Stock: https://www.mouser.co.uk/ProductDetail/Bourns/CR1206-FX-2200ELF?qs=UUWDWenVDLgD0XGAV5DOKA%3D%3D; Arrow Part Number: CR1206-FX-2200ELF; Arrow Price/Stock: https://www.arrow.com/en/products/cr1206-fx-2200elf/bourns?region=nac; Resistance: 220Ω; Case Code (In): 1206
footprint RESC3216X75N
pins: 1, 2

## CR1206-FX-2201ELF
designator R?, comment 2.2kΩ
Resistor; Manufacturer_Name: Bourns; Manufacturer_Part_Number: CR1206-FX-2201ELF; Power Rating: 250mW; Voltage Rating: 200V; Datasheet Link: http://uk.rs-online.com/web/p/products/7409097; Height: 0.75mm; Mouser Part Number: 652-CR1206FX-2201ELF; Mouser Price/Stock: https://www.mouser.com/Search/Refine.aspx?Keyword=652-CR1206FX-2201ELF; Arrow Part Number: CR1206-FX-2201ELF; Arrow Price/Stock: https://www.arrow.com/en/products/cr1206-fx-2201elf/bourns; Resistance: 2.2kΩ; Case Code - in: 1206
footprint RESC3216X75N
pins: 1, 2

## CR1206-FX-2202ELF
designator R?
Resistor; Manufacturer_Name: Bourns; Manufacturer_Part_Number: CR1206-FX-2202ELF; Datasheet Link: http://www.bourns.com/data/global/pdfs/CHPREZTR.pdf; Height: 0.75mm; Mouser Part Number: 652-CR1206FX-2202ELF; Mouser Price/Stock: https://www.mouser.com/Search/Refine.aspx?Keyword=652-CR1206FX-2202ELF; Arrow Part Number: CR1206-FX-2202ELF; Arrow Price/Stock: https://www.arrow.com/en/products/cr1206-fx-2202elf/bourns
footprint RESC3216X75N
pins: 1, 2

## CR1206-FX-2701ELF
designator R?
Resistor; Manufacturer_Name: Bourns; Manufacturer_Part_Number: CR1206-FX-2701ELF; Datasheet Link: http://www.bourns.com/data/global/pdfs/CHPREZTR.pdf; Height: 0.75mm; Mouser Part Number: 652-CR1206FX-2701ELF; Mouser Price/Stock: https://www.mouser.com/Search/Refine.aspx?Keyword=652-CR1206FX-2701ELF
footprint RESC3216X75N
pins: 1, 2

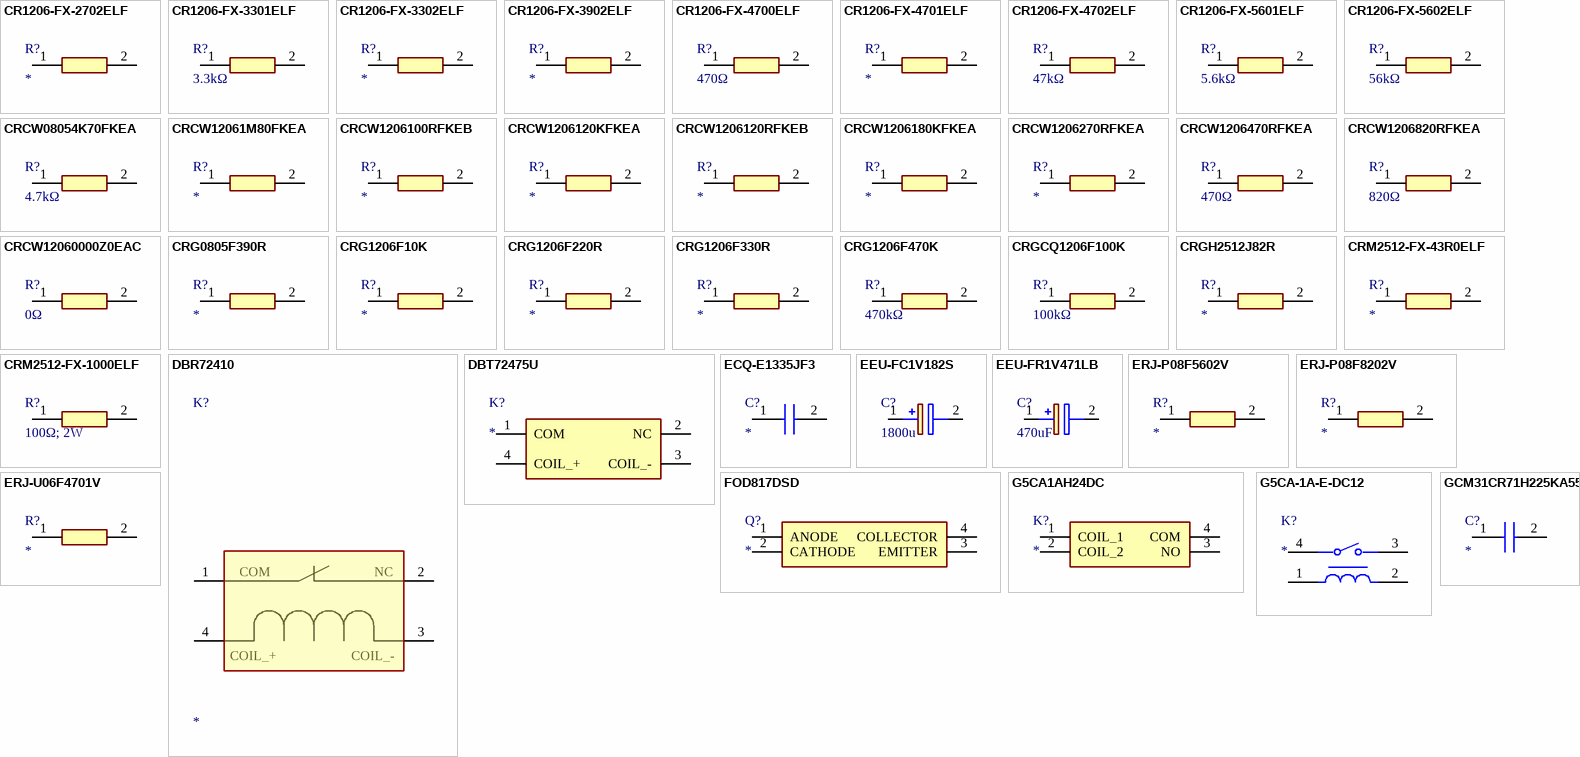
[diagram p2: symbols CR1206-FX-2702ELF to GCM31CR71H225KA55K]

## CR1206-FX-2702ELF
designator R?
Resistor; Manufacturer_Name: Bourns; Manufacturer_Part_Number: CR1206-FX-2702ELF; Datasheet Link: https://datasheet.datasheetarchive.com/originals/distributors/SFDatasheet-7/sf-000140162.pdf; Height: 0.75mm; Mouser Part Number: 652-CR1206FX-2702ELF; Mouser Price/Stock: https://www.mouser.com/Search/Refine.aspx?Keyword=652-CR1206FX-2702ELF
footprint RESC3216X75N
pins: 1, 2

## CR1206-FX-3301ELF
designator R?, comment 3.3kΩ
Resistor; Manufacturer_Name: Bourns; Manufacturer_Part_Number: CR1206-FX-3301ELF; Power Rating: 250mW; Tolerance: 1%; Voltage Rating: 200V; Datasheet Link: https://componentsearchengine.com/Datasheets/2/CR1206-FX-3301ELF.pdf; Height: 0.75mm; Mouser Part Number: 652-CR1206FX-3301ELF; Mouser Price/Stock: https://www.mouser.co.uk/ProductDetail/Bourns/CR1206-FX-3301ELF?qs=raSpJxvwqHGGjBeE8FVf2Q%3D%3D; Arrow Part Number: CR1206-FX-3301ELF; Arrow Price/Stock: https://www.arrow.com/en/products/cr1206-fx-3301elf/bourns?region=nac; Resistance: 3.3kΩ; Case Code - in: 1206
footprint RESC3216X75N
pins: 1, 2

## CR1206-FX-3302ELF
designator R?
Resistor; Manufacturer_Name: Bourns; Manufacturer_Part_Number: CR1206-FX-3302ELF; Datasheet Link: http://www.bourns.com/data/global/pdfs/CHPREZTR.pdf; Height: 0.75mm; Mouser Part Number: 652-CR1206FX-3302ELF; Mouser Price/Stock: https://www.mouser.com/Search/Refine.aspx?Keyword=652-CR1206FX-3302ELF; Arrow Part Number: CR1206-FX-3302ELF; Arrow Price/Stock: https://www.arrow.com/en/products/cr1206-fx-3302elf/bourns
footprint RESC3216X75N
pins: 1, 2

## CR1206-FX-3902ELF
designator R?
Resistor; Manufacturer_Name: Bourns; Manufacturer_Part_Number: CR1206-FX-3902ELF; Datasheet Link: https://datasheet.datasheetarchive.com/originals/distributors/SFDatasheet-7/sf-000140162.pdf; Height: 0.75mm; Mouser Part Number: 652-CR1206FX-3902ELF; Mouser Price/Stock: http://www.mouser.com/Search/ProductDetail.aspx?qs=raSpJxvwqHGcrRultVNRag%3d%3d
footprint RESC3216X75N
pins: 1, 2

## CR1206-FX-4700ELF
designator R?, comment 470Ω
Resistor; Manufacturer_Name: Bourns; Manufacturer_Part_Number: CR1206-FX-4700ELF; Power Rating: 250mW; Tolerance: 1%; Voltage Rating: 200V; Datasheet Link: http://www.bourns.com/data/global/pdfs/CHPREZTR.pdf; Height: 0.75mm; Mouser Part Number: 652-CR1206FX-4700ELF; Mouser Price/Stock: https://www.mouser.co.uk/ProductDetail/Bourns/CR1206-FX-4700ELF?qs=O4EQhShwvrrH97hYyWIFwA%3D%3D; Arrow Part Number: CR1206-FX-4700ELF; Arrow Price/Stock: https://www.arrow.com/en/products/cr1206-fx-4700elf/bourns?region=europe; Resistance: 470Ω; Case Code - in: 1206
footprint RESC3216X75N
pins: 1, 2

## CR1206-FX-4701ELF
designator R?
Resistor; Manufacturer_Name: Bourns; Manufacturer_Part_Number: CR1206-FX-4701ELF; Datasheet Link: https://search.samacsys.com/Datasheets/1/CR1206-FX-4701ELF.pdf; Height: 0.75mm; Mouser Part Number: 652-CR1206FX-4701ELF; Mouser Price/Stock: https://www.mouser.co.uk/ProductDetail/Bourns/CR1206-FX-4701ELF?qs=O4EQhShwvrqXPfi1C2lWIw%3D%3D; Arrow Part Number: CR1206-FX-4701ELF; Arrow Price/Stock: https://www.arrow.com/en/products/cr1206-fx-4701elf/bourns?region=nac
footprint RESC3216X75N
pins: 1, 2

## CR1206-FX-4702ELF
designator R?, comment 47kΩ
Resistor; Manufacturer_Name: Bourns; Manufacturer_Part_Number: CR1206-FX-4702ELF; Voltage Rating: 200V; Power Rating: 250mW; Tolerance: 1%; Datasheet Link: http://www.bourns.com/data/global/pdfs/CHPREZTR.pdf; Height: 0.75mm; Mouser Part Number: 652-CR1206FX-4702ELF; Mouser Price/Stock: https://www.mouser.co.uk/ProductDetail/Bourns/CR1206-FX-4702ELF?qs=O4EQhShwvrrvVv%252BvQu8reQ%3D%3D; Arrow Part Number: CR1206-FX-4702ELF; Arrow Price/Stock: https://www.arrow.com/en/products/cr1206-fx-4702elf/bourns?region=nac; Case Code (in): 1206; Resistance: 47kΩ
footprint RESC3216X75N
pins: 1, 2

## CR1206-FX-5601ELF
designator R?, comment 5.6kΩ
Resistor; Manufacturer_Name: Bourns; Manufacturer_Part_Number: CR1206-FX-5601ELF; Casing Code (in): 1206; Power Rating: 250mW; Voltage Rating: 200V; Tolerance: 1%; Datasheet Link: http://www.bourns.com/data/global/pdfs/CHPREZTR.pdf; Height: 0.75mm; Mouser Part Number: 652-CR1206FX-5601ELF; Mouser Price/Stock: https://www.mouser.co.uk/ProductDetail/Bourns/CR1206-FX-5601ELF/?qs=O4EQhShwvrpLgyNoO%2FwM5Q%3D%3D; Resistance: 5.6kΩ
footprint RESC3216X75N
pins: 1, 2

## CR1206-FX-5602ELF
designator R?, comment 56kΩ
Resistor; Manufacturer_Name: Bourns; Manufacturer_Part_Number: CR1206-FX-5602ELF; Voltage Rating: 200V; Power Rating: 250mW; Tolerance: 1%; Height: 0.75mm; Mouser Part Number: 652-CR1206FX-5602ELF; Mouser Price/Stock: https://www.mouser.co.uk/ProductDetail/Bourns/CR1206-FX-5602ELF?qs=O4EQhShwvrpmr2Gk5hEGIw%3D%3D; Resistance: 56kΩ; Case Code (in): 1206
footprint RESC3216X75N
pins: 1, 2

## CRCW08054K70FKEA
designator R?, comment 4.7kΩ
Resistor; Manufacturer_Name: Vishay; Manufacturer_Part_Number: CRCW08054K70FKEA; Power Rating: 125mW; Tolerance: 1%; Voltage Rating: 150V; Datasheet Link: http://www.vishay.com/docs/20035/dcrcwe3.pdf; Height: 0.5mm; Mouser Part Number: 71-CRCW0805-4.7K-E3; Mouser Price/Stock: https://www.mouser.co.uk/ProductDetail/Vishay-Dale/CRCW08054K70FKEA?qs=kkyyugUlSrMIzNiWjd4LGQ%3D%3D; Arrow Part Number: CRCW08054K70FKEA; Arrow Price/Stock: https://www.arrow.com/en/products/crcw08054k70fkea/vishay?region=europe; Resistance: 4.7kΩ; Case Code - in: 0805
footprint RESC2012X50N
pins: 1, 2

## CRCW12061M80FKEA
designator R?
Resistor; Manufacturer_Name: Vishay; Manufacturer_Part_Number: CRCW12061M80FKEA; Datasheet Link: http://www.vishay.com/docs/20035/dcrcwe3.pdf; Height: 0.6mm; Mouser Part Number: 71-CRCW12061M80FKEA; Mouser Price/Stock: https://www.mouser.co.uk/ProductDetail/Vishay-Dale/CRCW12061M80FKEA?qs=hWEbiLw1eZyfFLNVpLsCYQ%3D%3D; Arrow Part Number: CRCW12061M80FKEA; Arrow Price/Stock: https://www.arrow.com/en/products/crcw12061m80fkea/vishay
footprint RESC3216X60N
pins: 1, 2

## CRCW1206100RFKEB
designator R?
Resistor; Manufacturer_Name: Vishay; Manufacturer_Part_Number: CRCW1206100RFKEB; Datasheet Link: http://www.vishay.com/docs/20035/dcrcwe3.pdf; Height: 0.6mm; Mouser Part Number: 71-CRCW1206100RFKEB; Mouser Price/Stock: https://www.mouser.co.uk/ProductDetail/Vishay-Dale/CRCW1206100RFKEB?qs=9Ncj7kJVcvfAq03QqDjzyQ%3D%3D; Arrow Part Number: CRCW1206100RFKEB; Arrow Price/Stock: https://www.arrow.com/en/products/crcw1206100rfkeb/vishay
footprint RESC3216X60N
pins: 1, 2

## CRCW1206120KFKEA
designator R?
Resistor; Manufacturer_Name: Vishay; Manufacturer_Part_Number: CRCW1206120KFKEA; Datasheet Link: http://www.vishay.com/docs/20035/dcrcwe3.pdf; Height: 0.6mm; Mouser Part Number: 71-CRCW1206-120K-E3; Mouser Price/Stock: https://www.mouser.co.uk/ProductDetail/Vishay-Dale/CRCW1206120KFKEA/?qs=AcN%2F%2F5h%252BSuZYGDFxDgQ1cQ%3D%3D; Arrow Part Number: CRCW1206120KFKEA; Arrow Price/Stock: https://www.arrow.com/en/products/crcw1206120kfkea/vishay
footprint RESC3216X60N
pins: 1, 2

## CRCW1206120RFKEB
designator R?
Resistor; Manufacturer_Name: Vishay; Manufacturer_Part_Number: CRCW1206120RFKEB; Datasheet Link: http://componentsearchengine.com/Datasheets/1/CRCW1206120RFKEB.pdf; Height: 0.6mm; Mouser Part Number: 71-CRCW1206120RFKEB; Mouser Price/Stock: https://www.mouser.co.uk/ProductDetail/Vishay-Dale/CRCW1206120RFKEB?qs=AcN%2F%2F5h%252BSuYNebYIEn%252B1cw%3D%3D
footprint RESC3216X60N
pins: 1, 2

## CRCW1206180KFKEA
designator R?
Resistor; Manufacturer_Name: Vishay; Manufacturer_Part_Number: CRCW1206180KFKEA; Datasheet Link: http://www.vishay.com/docs/20035/dcrcwe3.pdf; Height: 0.6mm; Mouser Part Number: 71-CRCW1206-180K-E3; Mouser Price/Stock: https://www.mouser.co.uk/ProductDetail/Vishay-Dale/CRCW1206180KFKEA?qs=x0miZ1pvHFMmGx7HSnr6vg%3D%3D; Arrow Part Number: CRCW1206180KFKEA; Arrow Price/Stock: https://www.arrow.com/en/products/crcw1206180kfkea/vishay?region=nac
footprint RESC3216X60N
pins: 1, 2

## CRCW1206270RFKEA
designator R?
Resistor; Manufacturer_Name: Vishay; Manufacturer_Part_Number: CRCW1206270RFKEA; Datasheet Link: http://www.vishay.com/docs/20035/dcrcwe3.pdf; Height: 0.6mm; Mouser Part Number: 71-CRCW1206-270-E3; Mouser Price/Stock: https://www.mouser.com/Search/Refine.aspx?Keyword=71-CRCW1206-270-E3; Arrow Part Number: CRCW1206270RFKEA; Arrow Price/Stock: https://www.arrow.com/en/products/crcw1206270rfkea/vishay
footprint RESC3216X60N
pins: 1, 2

## CRCW1206470RFKEA
designator R?, comment 470Ω
Resistor; Manufacturer_Name: Vishay; Manufacturer_Part_Number: CRCW1206470RFKEA; Power Rating: 250mW; Tolerance: 1%; Voltage Rating: 200V; Datasheet Link: http://www.vishay.com/docs/20035/dcrcwe3.pdf; Height: 0.6mm; Mouser Part Number: 71-CRCW1206-470-E3; Mouser Price/Stock: https://www.mouser.co.uk/ProductDetail/Vishay-Dale/CRCW1206470RFKEA?qs=9sFvXT%252Bien0hfb5%2FAQcBUQ%3D%3D; Arrow Part Number: CRCW1206470RFKEA; Arrow Price/Stock: https://www.arrow.com/en/products/crcw1206470rfkea/vishay; Resistance: 470Ω; Case Code (In): 1206
footprint RESC3216X60N
pins: 1, 2

## CRCW1206820RFKEA
designator R?, comment 820Ω
Resistor; Manufacturer_Name: Vishay; Manufacturer_Part_Number: CRCW1206820RFKEA; Power Rating: 250mW; Tolerance: 1%; Voltage Rating: 200V; Datasheet Link: http://www.vishay.com/docs/20035/dcrcwe3.pdf; Height: 0.6mm; Mouser Part Number: 71-CRCW1206-820-E3; Mouser Price/Stock: https://www.mouser.com/Search/Refine.aspx?Keyword=71-CRCW1206-820-E3; Arrow Part Number: CRCW1206820RFKEA; Arrow Price/Stock: https://www.arrow.com/en/products/crcw1206820rfkea/vishay; Resistance: 820Ω; Case Code (In): 1206
footprint RESC3216X60N
pins: 1, 2

## CRCW12060000Z0EAC
designator R?, comment 0Ω
Resistor; Manufacturer_Name: Vishay; Manufacturer_Part_Number: CRCW12060000Z0EAC; Power Rating: 250mW; Voltage Rating: 200V; Datasheet Link: http://www.vishay.com/docs/28773/crcwce3.pdf; Height: 0.6mm; Mouser Part Number: 71-CRCW12060000Z0EAC; Mouser Price/Stock: https://www.mouser.co.uk/ProductDetail/Vishay-Dale/CRCW12060000Z0EAC?qs=E3Y5ESvWgWN07Lk5Xv414Q%3D%3D; Arrow Part Number: CRCW12060000Z0EAC; Arrow Price/Stock: https://www.arrow.com/en/products/crcw12060000z0eac/vishay?region=nac; Resistance: 0Ω; Case Code - in: 1206
footprint RESC3216X60N
pins: 1, 2

## CRG0805F390R
designator R?
Resistor; Manufacturer_Name: TE Connectivity; Manufacturer_Part_Number: CRG0805F390R; Datasheet Link: https://www.te.com/commerce/DocumentDelivery/DDEController?Action=srchrtrv&DocNm=1773204&DocType=Data%20Sheet&DocLang=English&PartCntxt=1623208-1&DocFormat=pdf; Height: 0.65mm; Mouser Part Number: 279-CRG0805F390R; Mouser Price/Stock: https://www.mouser.co.uk/ProductDetail/TE-Connectivity-Neohm/CRG0805F390R?qs=VHcS2MTj4gYIlA9eLs%252B9jA%3D%3D; Arrow Part Number: CRG0805F390R; Arrow Price/Stock: https://www.arrow.com/en/products/crg0805f390r/te-connectivity
footprint RESC2012X65N
pins: 1, 2

## CRG1206F10K
designator R?
Resistor; Manufacturer_Name: TE Connectivity; Manufacturer_Part_Number: CRG1206F10K; Datasheet Link: http://www.te.com/commerce/DocumentDelivery/DDEController?Action=showdoc&DocId=Data+Sheet%7F1773204%7FI%7Fpdf%7FEnglish%7FENG_DS_1773204_I.pdf%7F1623404-1; Height: 0.65mm; Mouser Part Number: 279-CRG1206F10K; Mouser Price/Stock: https://www.mouser.co.uk/ProductDetail/TE-Connectivity-Holsworthy/CRG1206F10K?qs=DfH2yQaBz6syxxGgV1YVWw%3D%3D; Arrow Part Number: CRG1206F10K; Arrow Price/Stock: https://www.arrow.com/en/products/crg1206f10k/te-connectivity?region=nac
footprint RESC3116X65N
pins: 1, 2

## CRG1206F220R
designator R?
Resistor; Manufacturer_Name: TE Connectivity; Manufacturer_Part_Number: CRG1206F220R; Datasheet Link: http://www.te.com/commerce/DocumentDelivery/DDEController?Action=showdoc&DocId=Data+Sheet%7F1773204%7FI%7Fpdf%7FEnglish%7FENG_DS_1773204_I.pdf%7F1623404-1; Height: 0.65mm; Mouser Part Number: 279-CRG1206F220R; Mouser Price/Stock: https://www.mouser.co.uk/ProductDetail/TE-Connectivity-Holsworthy/CRG1206F220R?qs=VHcS2MTj4gavm79x%2FQqULw%3D%3D; Arrow Part Number: CRG1206F220R; Arrow Price/Stock: https://www.arrow.com/en/products/crg1206f220r/te-connectivity
footprint RESC3116X65N
pins: 1, 2

## CRG1206F330R
designator R?
Resistor; Manufacturer_Name: TE Connectivity; Manufacturer_Part_Number: CRG1206F330R; Datasheet Link: http://www.te.com/commerce/DocumentDelivery/DDEController?Action=showdoc&DocId=Data+Sheet%7F1773204%7FI%7Fpdf%7FEnglish%7FENG_DS_1773204_I.pdf%7F1623404-1; Height: 0.65mm; Mouser Part Number: 279-CRG1206F330R; Mouser Price/Stock: https://www.mouser.co.uk/ProductDetail/TE-Connectivity-Holsworthy/CRG1206F330R?qs=VHcS2MTj4gZE0EI8hgFNrQ%3D%3D; Arrow Part Number: CRG1206F330R; Arrow Price/Stock: https://www.arrow.com/en/products/crg1206f330r/te-connectivity
footprint RESC3116X65N
pins: 1, 2

## CRG1206F470K
designator R?, comment 470kΩ
Resistor; Manufacturer_Name: TE Connectivity; Manufacturer_Part_Number: CRG1206F470K; Power Rating: 250mW; Voltage Rating: 200V; Datasheet Link: https://www.te.com/commerce/DocumentDelivery/DDEController?Action=srchrtrv&DocNm=1773204&DocType=Data%20Sheet&DocLang=English&PartCntxt=1623516-1&DocFormat=pdf; Height: 0.65mm; Mouser Part Number: 279-CRG1206F470K; Mouser Price/Stock: https://www.mouser.co.uk/ProductDetail/TE-Connectivity-Holsworthy/CRG1206F470K?qs=VHcS2MTj4gZtLtpMu4W2ag%3D%3D; Resistance: 470kΩ
footprint RESC3116X65N
pins: 1, 2